# Altium footprint library NX1001-02SMR.PcbLib: 1 footprints
Each footprint in its own frame and in the unit in brackets; x right, y up, seen from the top. Pads: shape width x height; smd on the part's side, far side on the other; paste and mask are expansions set on the pad; w line width, h text height; cw(c..) or ccw(c..) is an arc to the next point about the centre after c.
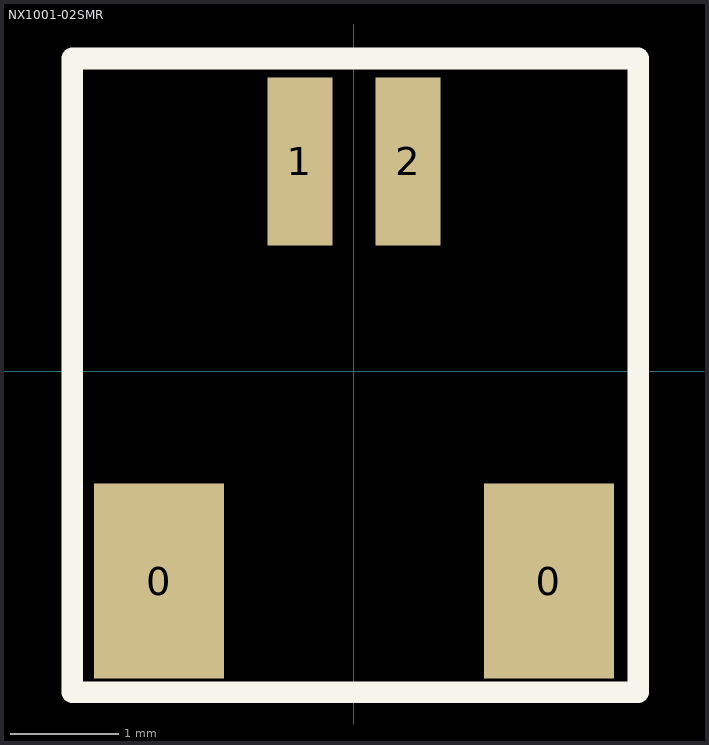
[diagram p0: the footprint, top view; thin cyan lines are the x and y axes]

## NX1001-02SMR [mm] "NX1001-02SMR"
pads (4):
  rect 1.2x1.8 smd mask+0.015: 0(-1.8,-1.937) 0(1.8,-1.937)
  rect 0.6x1.55 smd mask+0.015: 1(-0.5,1.938) 2(0.5,1.938)
Top Overlay:
  lines w0.2: -2.6,-2.962 2.625,-2.962 2.625,2.888 -2.6,2.888 -2.6,-2.962
Top Assembly:
  lines w0.1: -2.6,-2.962 2.625,-2.962 2.625,2.913 -2.6,2.913 -2.6,-2.962
  text "'.Designator'" at -1.325,-0.325 h0.7
3D body "NX1001-02SMR.stp": height 2.9, standoff 0, extent -2,-2.825 2,2.125